# Altium footprint library Kingbright.PcbLib: 1 footprints
Each footprint in its own frame and in the unit in brackets; x right, y up, seen from the top. Pads: shape width x height; smd on the part's side, far side on the other; paste and mask are expansions set on the pad; w line width, h text height; cw(c..) or ccw(c..) is an arc to the next point about the centre after c.
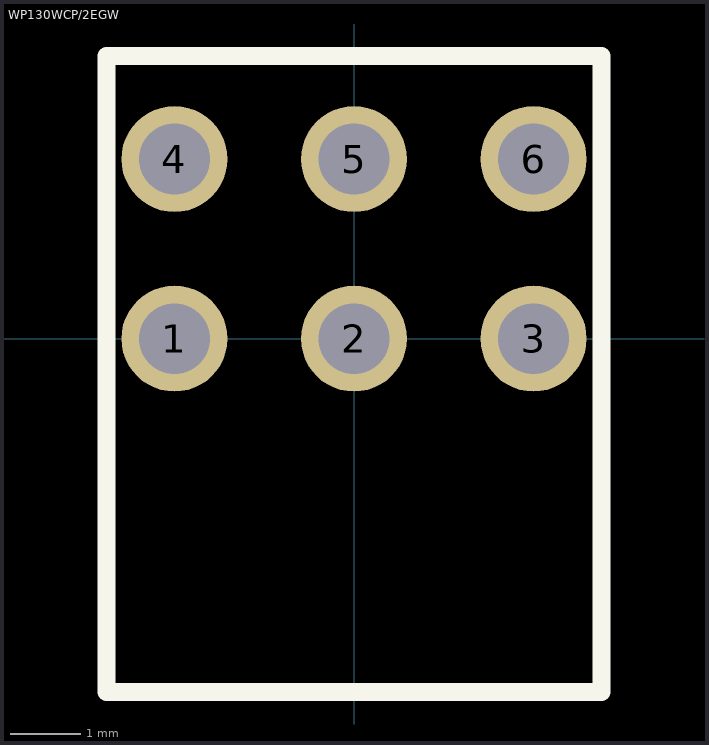
[diagram p0: the footprint, top view; thin cyan lines are the x and y axes]

## WP130WCP/2EGW [mm]
height 9.65
pads (6):
  round 1.5 hole 1: 1(-2.54,0) 2(0,0) 3(2.54,0) 4(-2.54,2.54) 5(0,2.54) 6(2.54,2.54)
Top Overlay:
  lines w0.254: -3.5,-5 -3.5,4 3.5,4 3.5,-5 -3.5,-5
3D body: height 9.72, standoff -3.42, extent -3.5,-7.71 3.5,4.01